# Altium footprint library 2021-04-01_09-06-49.PcbLib: 10 footprints
Each footprint in its own frame and in the unit in brackets; x right, y up, seen from the top. Pads: shape width x height; smd on the part's side, far side on the other; paste and mask are expansions set on the pad; w line width, h text height; cw(c..) or ccw(c..) is an arc to the next point about the centre after c.
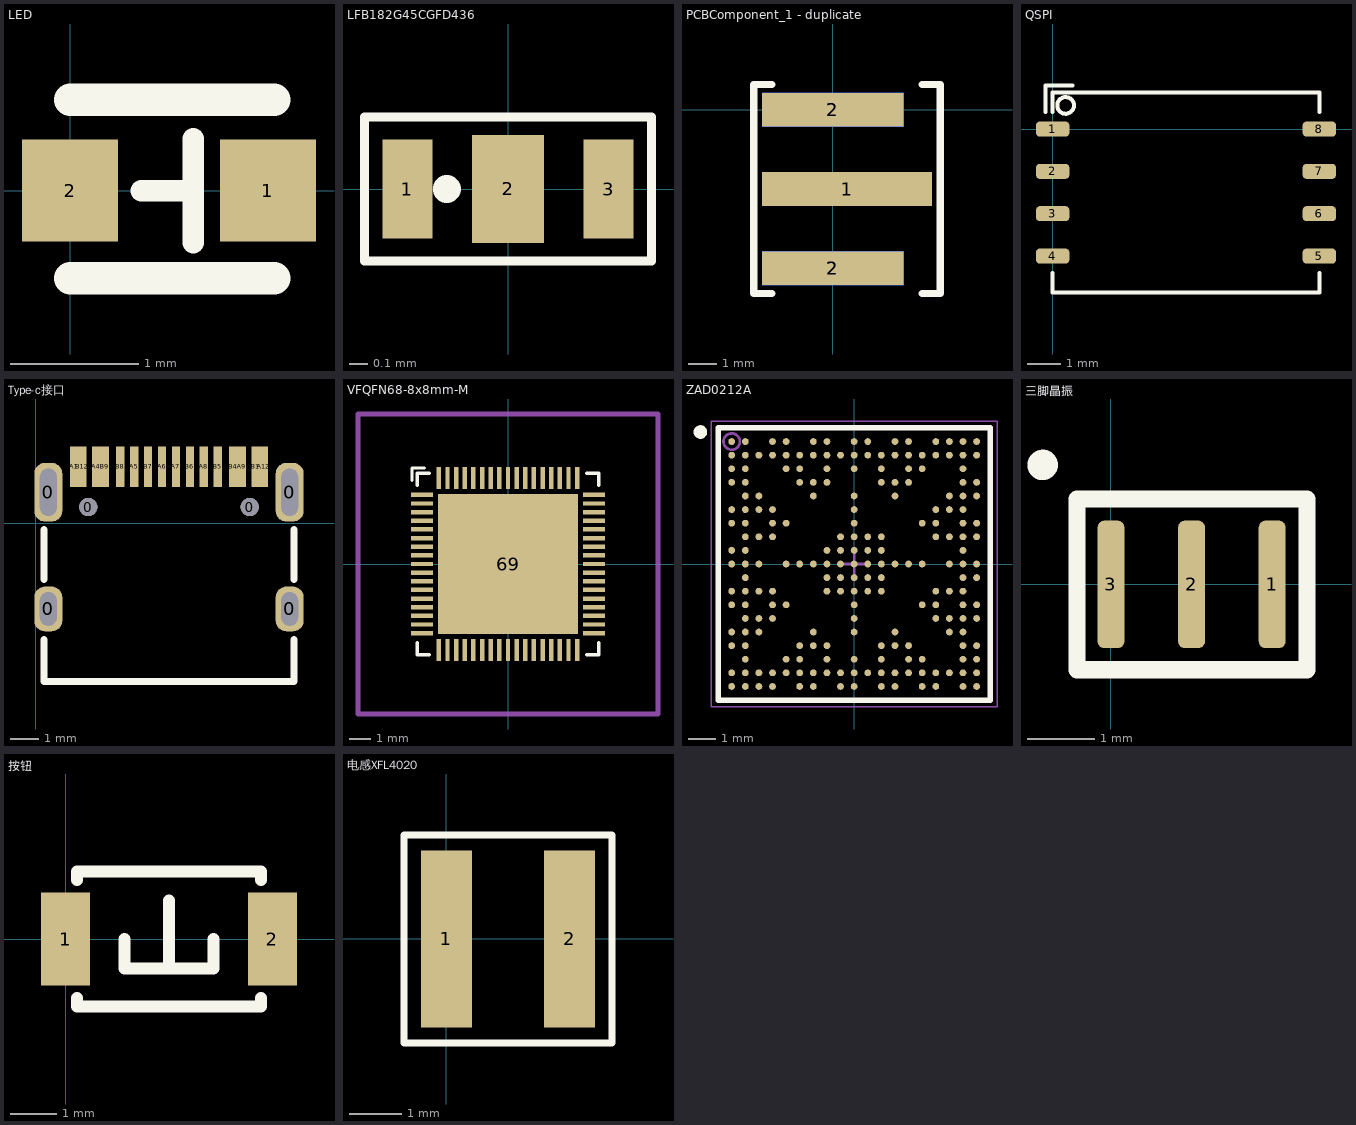
[diagram p0: the footprints below, top view; thin cyan lines are the x and y axes]

## LED [mm]
pads (2):
  rect 0.75x0.8 smd: 1(1.55,0) 2(0,0)
Top Overlay:
  lines w0.17: 0.559,0 0.965,0 ; 0.965,-0.406 0.965,0.406
  lines w0.254: 0,-0.686 1.6,-0.686 ; 0,0.711 1.6,0.711

## LFB182G45CGFD436 [mm]
pads (3):
  rect 0.28x0.55 smd mask-0.01: 1(-0.56,0) 3(0.56,0)
  rect 0.4x0.6 smd mask-0.01: 2(0,0)
Top Overlay:
  circle w0.15: c-0.34,0 r0.002
  lines w0.05: -0.8,-0.4 -0.8,0.4 0.8,0.4 0.8,-0.4 -0.8,-0.4
3D body: height 0.65, standoff 0, extent -0.791,-0.392 0.797,0.393
3D body: height 0.66, standoff 0.65, extent -0.544,-0.104 -0.344,0.096

## PCBComponent_1 - duplicate [mm]
pads (5):
  rect 6x1.2 smd: 1(0.5,-2.8)
  rect 5x1.2 smd: 2(0,-5.6) 2(0,0)
  rect 5x1.2 smd far side: 2(0,-5.6) 2(0,0)
Top Overlay:
  lines w0.254: -2.159,-6.489 -2.794,-6.489 -2.794,-2.8 -2.794,0.889 -2.159,0.889 ; 3.159,-6.489 3.794,-6.489 3.794,-2.8 3.794,0.889 3.159,0.889

## QSPI [mm]
pads (8):
  rrect50% 1x0.45 smd: 1(0,0) 2(0,-1.27) 3(0,-2.54) 4(0,-3.81) 5(8,-3.81) 6(8,-2.54) 7(8,-1.27) 8(8,0)
Top Overlay:
  circle w0.12: c0.388,0.707 r0.25
  lines w0.12: -0.212,0.507 -0.212,1.307 0.588,1.307 ; 0,-4.318 0,-4.905 8,-4.905 8,-4.318 ; 0,0.508 0,1.095 8,1.095 8,0.508

## Type-c接口 [mm]
pads (22):
  rrect75% 1x1.6 hole 1.2 slot 0.6 at 0 deg: 0(0.454,-3.063) 0(9.094,-3.063)
  rrect75% 1x2.1 hole 1.7 slot 0.6 at 0 deg: 0(0.454,1.117) 0(9.094,1.117)
  round 0.65 hole 0.65: 0(1.884,0.587) 0(7.664,0.587)
  rect 0.3x1.45 smd: A1(1.374,2.032) A4(2.174,2.032) A5(3.524,2.032) A6(4.524,2.032) A7(5.024,2.032) A8(6.024,2.032) A9(7.374,2.032) A12(8.174,2.032) B1(7.874,2.032) B4(7.074,2.032) B5(6.524,2.032) B6(5.524,2.032) B7(4.024,2.032) B8(3.024,2.032) B9(2.474,2.032) B12(1.674,2.032)
Top Overlay:
  lines w0.254: 0.304,-4.163 0.304,-5.663 9.244,-5.663 9.244,-4.163 ; 0.304,-2.013 0.304,-0.213 ; 9.244,-2.013 9.244,-0.213
Mechanical 1:
  lines w0.254: 0.449,-5.663 9.099,-5.663

## VFQFN68-8x8mm-M [mil]
pads (69):
  rect 40x8 smd paste+0 mask+0: 1(-156.5,125.98) 2(-156.5,110.24) 3(-156.5,94.49) 4(-156.5,78.74) 5(-156.5,62.99) 6(-156.5,47.24) 7(-156.5,31.5) 8(-156.5,15.75) 9(-156.5,0) 10(-156.5,-15.75) 11(-156.5,-31.5) 12(-156.5,-47.24) 13(-156.5,-62.99) 14(-156.5,-78.74) 15(-156.5,-94.49) 16(-156.5,-110.24) 17(-156.5,-125.98) 35(156.5,-125.98) 36(156.5,-110.24) 37(156.5,-94.49) 38(156.5,-78.74) 39(156.5,-62.99) 40(156.5,-47.24) 41(156.5,-31.5) 42(156.5,-15.75) 43(156.5,0) 44(156.5,15.75) 45(156.5,31.5) 46(156.5,47.24) 47(156.5,62.99) 48(156.5,78.74) 49(156.5,94.49) 50(156.5,110.24) 51(156.5,125.98)
  rect 8x40 smd paste+0 mask+0: 18(-125.98,-156.5) 19(-110.24,-156.5) 20(-94.49,-156.5) 21(-78.74,-156.5) 22(-62.99,-156.5) 23(-47.24,-156.5) 24(-31.5,-156.5) 25(-15.75,-156.5) 26(0,-156.5) 27(15.75,-156.5) 28(31.5,-156.5) 29(47.24,-156.5) 30(62.99,-156.5) 31(78.74,-156.5) 32(94.49,-156.5) 33(110.24,-156.5) 34(125.98,-156.5) 52(125.98,156.5) 53(110.24,156.5) 54(94.49,156.5) 55(78.74,156.5) 56(62.99,156.5) 57(47.24,156.5) 58(31.5,156.5) 59(15.75,156.5) 60(0,156.5) 61(-15.75,156.5) 62(-31.5,156.5) 63(-47.24,156.5) 64(-62.99,156.5) 65(-78.74,156.5) 66(-94.49,156.5) 67(-110.24,156.5) 68(-125.98,156.5)
  rect 256x256 smd paste-127.5 mask+0: 69(0,0)
Top Overlay:
  lines w6: -175,152.58 -175,175 -152.58,175 ; -165.5,-143.08 -165.5,-165.5 -143.08,-165.5 ; -165.5,143.08 -165.5,165.5 -143.08,165.5 ; 143.08,-165.5 165.5,-165.5 165.5,-143.08 ; 143.08,165.5 165.5,165.5 165.5,143.08
Top Paste:
  region: -80.74,124.06 -124.06,124.06 -124.06,80.74 -80.74,80.74
  region: -80.74,72.86 -124.06,72.86 -124.06,29.54 -80.74,29.54
  region: -80.74,21.66 -124.06,21.66 -124.06,-21.66 -80.74,-21.66
  region: -80.74,-29.54 -124.06,-29.54 -124.06,-72.86 -80.74,-72.86
  region: -80.74,-80.74 -124.06,-80.74 -124.06,-124.06 -80.74,-124.06
  region: -29.54,124.06 -72.86,124.06 -72.86,80.74 -29.54,80.74
  region: -29.54,72.86 -72.86,72.86 -72.86,29.54 -29.54,29.54
  region: -29.54,21.66 -72.86,21.66 -72.86,-21.66 -29.54,-21.66
  region: -29.54,-29.54 -72.86,-29.54 -72.86,-72.86 -29.54,-72.86
  region: -29.54,-80.74 -72.86,-80.74 -72.86,-124.06 -29.54,-124.06
  region: 21.66,124.06 -21.66,124.06 -21.66,80.74 21.66,80.74
  region: 21.66,72.86 -21.66,72.86 -21.66,29.54 21.66,29.54
  region: 21.66,21.66 -21.66,21.66 -21.66,-21.66 21.66,-21.66
  region: 21.66,-29.54 -21.66,-29.54 -21.66,-72.86 21.66,-72.86
  region: 21.66,-80.74 -21.66,-80.74 -21.66,-124.06 21.66,-124.06
  region: 72.86,124.06 29.54,124.06 29.54,80.74 72.86,80.74
  region: 72.86,72.86 29.54,72.86 29.54,29.54 72.86,29.54
  region: 72.86,21.66 29.54,21.66 29.54,-21.66 72.86,-21.66
  region: 72.86,-29.54 29.54,-29.54 29.54,-72.86 72.86,-72.86
  region: 72.86,-80.74 29.54,-80.74 29.54,-124.06 72.86,-124.06
  region: 124.06,124.06 80.74,124.06 80.74,80.74 124.06,80.74
  region: 124.06,72.86 80.74,72.86 80.74,29.54 124.06,29.54
  region: 124.06,21.66 80.74,21.66 80.74,-21.66 124.06,-21.66
  region: 124.06,-29.54 80.74,-29.54 80.74,-72.86 124.06,-72.86
  region: 124.06,-80.74 80.74,-80.74 80.74,-124.06 124.06,-124.06
Mechanical 13:
  lines w10: -273.43,-273.43 0,-273.43 273.43,-273.43 273.43,0 273.43,273.43 0,273.43 -273.43,273.43 -273.43,0 -273.43,-273.43
3D body: height 10, standoff 0, extent 0,0 10,10

## ZAD0212A [mm]
pads (212):
  round 0.25 smd paste+0 mask+0: A1(-4.5,4.5) A2(-4,4.5) A4(-3,4.5) A5(-2.5,4.5) A7(-1.5,4.5) A8(-1,4.5) A10(0,4.5) A11(0.5,4.5) A13(1.5,4.5) A14(2,4.5) A16(3,4.5) A17(3.5,4.5) A18(4,4.5) A19(4.5,4.5) B1(-4.5,4) B2(-4,4) B3(-3.5,4) B4(-3,4) B5(-2.5,4) B6(-2,4) B7(-1.5,4) B8(-1,4) B9(-0.5,4) B10(0,4) B11(0.5,4) B12(1,4) B13(1.5,4) B14(2,4) B15(2.5,4) B16(3,4) B17(3.5,4) B18(4,4) B19(4.5,4) C1(-4.5,3.5) C2(-4,3.5) C5(-2.5,3.5) C6(-2,3.5) C8(-1,3.5) C10(0,3.5) C12(1,3.5) C14(2,3.5) C15(2.5,3.5) C18(4,3.5) D1(-4.5,3) D2(-4,3) D6(-2,3) D7(-1.5,3) D8(-1,3) D12(1,3) D13(1.5,3) D14(2,3) D18(4,3) D19(4.5,3) E2(-4,2.5) E3(-3.5,2.5) E7(-1.5,2.5) E10(0,2.5) E13(1.5,2.5) E17(3.5,2.5) E18(4,2.5) E19(4.5,2.5) F1(-4.5,2) F2(-4,2) F3(-3.5,2) F4(-3,2) F10(0,2) F16(3,2) F17(3.5,2) F18(4,2) G1(-4.5,1.5) G2(-4,1.5) G4(-3,1.5) G5(-2.5,1.5) G10(0,1.5) G15(2.5,1.5) G16(3,1.5) G18(4,1.5) G19(4.5,1.5) H2(-4,1) H3(-3.5,1) H4(-3,1) H9(-0.5,1) H10(0,1) H11(0.5,1) H12(1,1) H16(3,1) H17(3.5,1) H18(4,1) H19(4.5,1) J1(-4.5,0.5) J2(-4,0.5) J8(-1,0.5) J9(-0.5,0.5) J10(0,0.5) J11(0.5,0.5) J12(1,0.5) J18(4,0.5) K1(-4.5,0) K2(-4,0) K3(-3.5,0) K5(-2.5,0) K6(-2,0) K7(-1.5,0) K8(-1,0) K9(-0.5,0) K10(0,0) K11(0.5,0) K12(1,0) K13(1.5,0) K14(2,0) K15(2.5,0) K17(3.5,0) K18(4,0) K19(4.5,0) L2(-4,-0.5) L8(-1,-0.5) L9(-0.5,-0.5) L10(0,-0.5) L11(0.5,-0.5) L12(1,-0.5) L18(4,-0.5) L19(4.5,-0.5) M1(-4.5,-1) M2(-4,-1) M3(-3.5,-1) M4(-3,-1) M8(-1,-1) M9(-0.5,-1) M10(0,-1) M11(0.5,-1) M12(1,-1) M16(3,-1) M17(3.5,-1) M18(4,-1) N1(-4.5,-1.5) N2(-4,-1.5) N4(-3,-1.5) N5(-2.5,-1.5) N10(0,-1.5) N15(2.5,-1.5) N16(3,-1.5) N18(4,-1.5) N19(4.5,-1.5) P2(-4,-2) P3(-3.5,-2) P4(-3,-2) P10(0,-2) P16(3,-2) P17(3.5,-2) P18(4,-2) P19(4.5,-2) R1(-4.5,-2.5) R2(-4,-2.5) R3(-3.5,-2.5) R7(-1.5,-2.5) R10(0,-2.5) R13(1.5,-2.5) R17(3.5,-2.5) R18(4,-2.5) T1(-4.5,-3) T2(-4,-3) T6(-2,-3) T7(-1.5,-3) T8(-1,-3) T12(1,-3) T13(1.5,-3) T14(2,-3) T18(4,-3) T19(4.5,-3) U2(-4,-3.5) U5(-2.5,-3.5) U6(-2,-3.5) U8(-1,-3.5) U10(0,-3.5) U12(1,-3.5) U14(2,-3.5) U15(2.5,-3.5) U18(4,-3.5) U19(4.5,-3.5) V1(-4.5,-4) V2(-4,-4) V3(-3.5,-4) V4(-3,-4) V5(-2.5,-4) V6(-2,-4) V7(-1.5,-4) V8(-1,-4) V9(-0.5,-4) V10(0,-4) V11(0.5,-4) V12(1,-4) V13(1.5,-4) V14(2,-4) V15(2.5,-4) V16(3,-4) V17(3.5,-4) V18(4,-4) V19(4.5,-4) W1(-4.5,-4.5) W2(-4,-4.5) W3(-3.5,-4.5) W4(-3,-4.5) W6(-2,-4.5) W7(-1.5,-4.5) W9(-0.5,-4.5) W10(0,-4.5) W12(1,-4.5) W13(1.5,-4.5) W15(2.5,-4.5) W16(3,-4.5) W18(4,-4.5) W19(4.5,-4.5)
Top Overlay:
  circle w0.25: c-5.65,4.85 r0.125
  lines w0.2: -5,-5 -5,5 5,5 5,-5 -5,-5
Mechanical 13:
  circle w0.1: c-4.5,4.5 r0.3
  lines w0.1: -5,-5 -5,5 5,5 5,-5 -5,-5
Mechanical 15:
  lines w0.05: -5.25,-5.25 -5.25,5.25 5.25,5.25 5.25,-5.25 -5.25,-5.25
  lines w0.1: -0.5,0 0.5,0 ; 0,-0.5 0,0.5
3D body: height 0.25, standoff 0, extent 0,0 0.254,0.254

## 三脚晶振 [mm]
pads (3):
  rrect50% 0.4x1.9 smd: 1(2.4,0) 2(1.2,0) 3(0,0)
Top Overlay:
  circle w0.254: c-1.016,1.778 r0.1
  lines w0.254: -0.508,-1.27 2.921,-1.27 2.921,1.27 -0.508,1.27 -0.508,-1.27

## 按钮 [mm]
pads (2):
  rect 1.05x2 smd: 1(0,0) 2(4.45,0)
Top Overlay:
  lines w0.254: 0.25,-1.266 0.25,-1.45 4.2,-1.45 4.2,-1.266 ; 0.25,1.266 0.25,1.45 4.2,1.45 4.2,1.266 ; 1.27,0 1.27,-0.635 2.225,-0.635 ; 2.225,0.828 2.225,-0.635 ; 3.18,0 3.18,-0.635 2.225,-0.635

## 电感XFL4020 [mm]
pads (2):
  rect 0.98x3.4 smd: 1(0,0) 2(2.37,0)
Top Overlay:
  lines w0.127: -0.815,-2 3.185,-2 3.185,2 -0.815,2 -0.815,-2